# Altium footprint library MCP6002.PcbLib: 1 footprints
Each footprint in its own frame and in the unit in brackets; x right, y up, seen from the top. Pads: shape width x height; smd on the part's side, far side on the other; paste and mask are expansions set on the pad; w line width, h text height; cw(c..) or ccw(c..) is an arc to the next point about the centre after c.
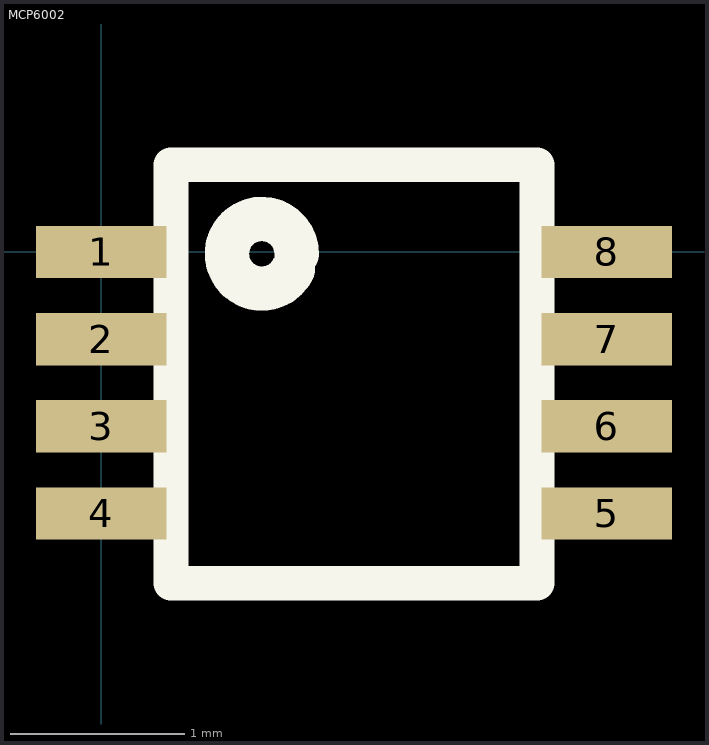
[diagram p0: the footprint, top view; thin cyan lines are the x and y axes]

## MCP6002 [mm]
pads (8):
  rect 0.75x0.3 smd paste+0 mask+0.05: 1(0,0) 2(0,-0.5) 3(0,-1) 4(0,-1.5) 5(2.9,-1.5) 6(2.9,-1) 7(2.9,-0.5) 8(2.9,0)
Top Overlay:
  lines w0.2: 0.4,-1.9 2.5,-1.9 2.5,0.5 0.4,0.5 0.4,-1.9
  lines w0.254: 1.1,-0.1 cw(c0.921,-0.011) 1.121,-0.011